# Altium footprint library Filters.PcbLib: 2 footprints
Each footprint in its own frame and in the unit in brackets; x right, y up, seen from the top. Pads: shape width x height; smd on the part's side, far side on the other; paste and mask are expansions set on the pad; w line width, h text height; cw(c..) or ccw(c..) is an arc to the next point about the centre after c.
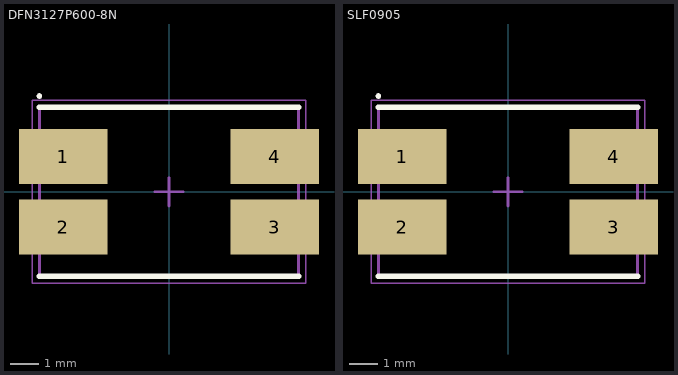
[diagram p0: the footprints below, top view; thin cyan lines are the x and y axes]

## DFN3127P600-8N [mm]
height 5
pads (4):
  rect 3.15x1.95 smd: 1(-3.75,1.25) 2(-3.75,-1.25) 3(3.75,-1.25) 4(3.75,1.25)
Top Overlay:
  circle w0.1: c-4.6,3.4 r0.05
  lines w0.2: -4.6,-3 4.6,-3 ; -4.6,3 4.6,3
Mechanical 13:
  lines w0.1: -4.6,-3 4.6,-3 4.6,3 -4.6,3 -4.6,-3
Mechanical 15:
  lines w0.05: -4.85,-3.25 4.85,-3.25 4.85,3.25 -4.85,3.25 -4.85,-3.25
  lines w0.1: -0.5,0 0.5,0 ; 0,-0.5 0,0.5
3D body: height 5, standoff 0, extent -4.6,-3 4.6,3

## SLF0905 [mm] "DFN3127P600-8N"
height 5
pads (4):
  rect 3.15x1.95 smd: 1(-3.75,1.25) 2(-3.75,-1.25) 3(3.75,-1.25) 4(3.75,1.25)
Top Overlay:
  circle w0.1: c-4.6,3.4 r0.05
  lines w0.2: -4.6,-3 4.6,-3 ; -4.6,3 4.6,3
Mechanical 13:
  lines w0.1: -4.6,-3 4.6,-3 4.6,3 -4.6,3 -4.6,-3
Mechanical 15:
  lines w0.05: -4.85,-3.25 4.85,-3.25 4.85,3.25 -4.85,3.25 -4.85,-3.25
  lines w0.1: -0.5,0 0.5,0 ; 0,-0.5 0,0.5
3D body: height 5, standoff 0, extent -4.6,-3 4.6,3